# EAGLE library part RESISTOR_ARRAY (library archived)
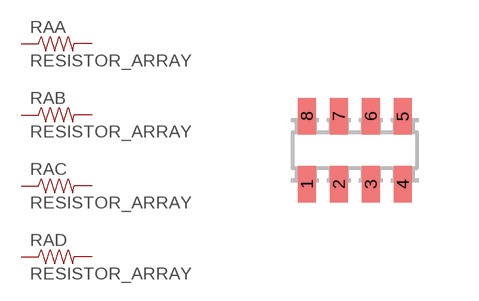
[diagram p9: symbol with the pads of 0603-ARV; footprint 0603-ARV]

Designator prefix RA; gates A=RESISTOR B=RESISTOR C=RESISTOR D=RESISTOR

## RESISTOR_ARRAY0603_X4  [0603-ARV]
1  A:1  pas
2  B:1  pas
3  C:1  pas
4  D:1  pas
5  D:2  pas
6  C:2  pas
7  B:2  pas
8  A:2  pas

## Footprint 0603-ARV (pad centres in mm)
Chip Resistor Array size 4 × 0603 Originally from SparkFun libraries Modified according to this doc <http://www.ctscorp.com/components/datasheets/ctschiparrayds.pdf>; not exactly the parts I use but the modifications (longer, thinner pads) make sense given my limited experience with them. Updated version is untested.
smd 0.45 x 0.9: 1 -1.2,-0.85; 2 -0.4,-0.85; 3 0.4,-0.85; 4 1.2,-0.85; 5 1.2,0.85; 6 0.4,0.85; 7 -0.4,0.85; 8 -1.2,0.85